# EAGLE library part RJHSE538X04 (library RJHSE538x04)
Datasheets RJHSE538x04 Catalog Drawings RJ45 Series Right Angle PCN Design/Specification Multiple Series Copper 29/Jan/2009 RJHSE Shield Material 30/Jun/2015 Standard Package 40 Category Connectors, Interconnects Family Modular Connectors - Jacks Series RJHSE Packaging ? Tray ? Connector Type Jack Number of Positions/Contacts 8p8c (RJ45, Ethernet) Number of Ports 4 Number of Rows 1 Mounting Type Through Hole Orientation 90° Angle (Right) Termination Solder Shielding Shielded, EMI Finger Ratings - Features Board Lock LED Color Green - Yellow Ingress Protection - Tab Direction Up Contact Material Phosphor Bronze Contact Finish Gold Contact Finish Thickness 50µin (1.27µm) Housing Material Thermoplastic Operating Temperature -55°C ~ 85°C Online Catalog RJHSE Series Other Names RJHSE538404
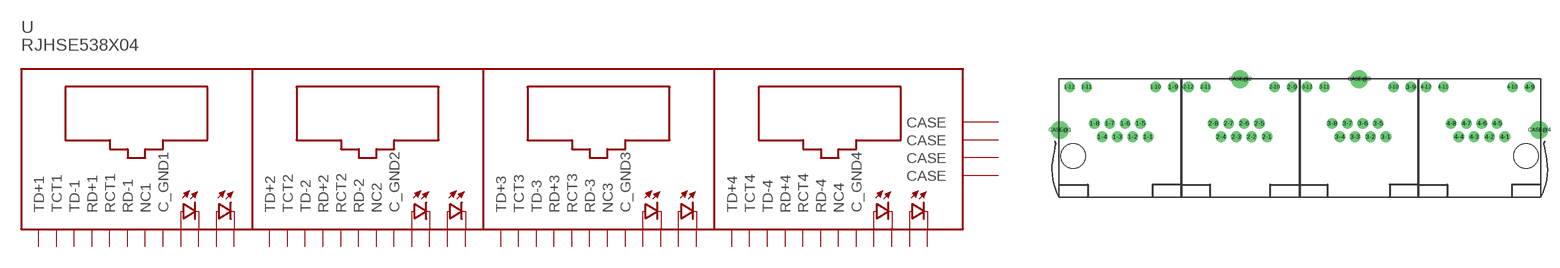
[diagram p0: symbol with the pads of RJHSE538X04; footprint RJHSE538X04]

Designator prefix -

## RJHSE538X04  [RJHSE538X04]
1-1  TD+1  pas
1-2  TCT1  pas
1-3  TD-1  pas
1-4  RD+1  pas
1-5  RCT1  pas
1-6  RD-1  pas
1-7  NC1  pas
1-8  C_GND1  pas
1-9  C2  pas
1-10  A2  pas
1-11  C1  pas
1-12  A1  pas
2-1  TD+2  pas
2-2  TCT2  pas
2-3  TD-2  pas
2-4  RD+2  pas
2-5  RCT2  pas
2-6  RD-2  pas
2-7  NC2  pas
2-8  C_GND2  pas
2-9  C4  pas
2-10  A4  pas
2-11  C3  pas
2-12  A3  pas
3-1  TD+3  pas
3-2  TCT3  pas
3-3  TD-3  pas
3-4  RD+3  pas
3-5  RCT3  pas
3-6  RD-3  pas
3-7  NC3  pas
3-8  C_GND3  pas
3-9  C6  pas
3-10  A6  pas
3-11  C5  pas
3-12  A5  pas
4-1  TD+4  pas
4-2  TCT4  pas
4-3  TD-4  pas
4-4  RD+4  pas
4-5  RCT4  pas
4-6  RD-4  pas
4-7  NC4  pas
4-8  C_GND4  pas
4-9  C8  pas
4-10  A8  pas
4-11  C7  pas
4-12  A7  pas
CASE@1  CASE
CASE@2  CASE
CASE@3  CASE
CASE@4  CASE

## Footprint RJHSE538X04 (pad centres in mm)
drill 0.9: 1-1 9.906,2.54; 1-2 7.874,2.54; 1-3 5.842,2.54; 1-4 3.81,2.54; 1-5 8.89,4.318; 1-6 6.858,4.318; 1-7 4.826,4.318; 1-8 2.794,4.318; 1-9 13.208,9.144; 1-10 10.922,9.144; 1-11 1.778,9.144; 1-12 -0.508,9.144; 2-1 25.654,2.54; 2-2 23.622,2.54; 2-3 21.59,2.54; 2-4 19.558,2.54; 2-5 24.638,4.318; 2-6 22.606,4.318; 2-7 20.574,4.318; 2-8 18.542,4.318; 2-9 28.956,9.144; 2-10 26.67,9.144; 2-11 17.526,9.144; 2-12 15.24,9.144; 3-1 41.402,2.54; 3-2 39.37,2.54; 3-3 37.338,2.54; 3-4 35.306,2.54; 3-5 40.386,4.318; 3-6 38.354,4.318; 3-7 36.322,4.318; 3-8 34.29,4.318; 3-9 44.704,9.144; 3-10 42.418,9.144; 3-11 33.274,9.144; 3-12 30.988,9.144; 4-1 57.15,2.54; 4-2 55.118,2.54; 4-3 53.086,2.54; 4-4 51.054,2.54; 4-5 56.134,4.318; 4-6 54.102,4.318; 4-7 52.07,4.318; 4-8 50.038,4.318; 4-9 60.452,9.144; 4-10 58.166,9.144; 4-11 49.022,9.144; 4-12 46.736,9.144
drill 1.575: CASE@1 -1.778,3.429; CASE@2 22.098,10.16; CASE@3 37.846,10.16; CASE@4 61.722,3.429
hole 3.251 at 0,0
hole 3.251 at 59.944,0